# Altium footprint library SOIC127P600X175-16N-3-V1.PcbLib: 1 footprints
Each footprint in its own frame and in the unit in brackets; x right, y up, seen from the top. Pads: shape width x height; smd on the part's side, far side on the other; paste and mask are expansions set on the pad; w line width, h text height; cw(c..) or ccw(c..) is an arc to the next point about the centre after c.
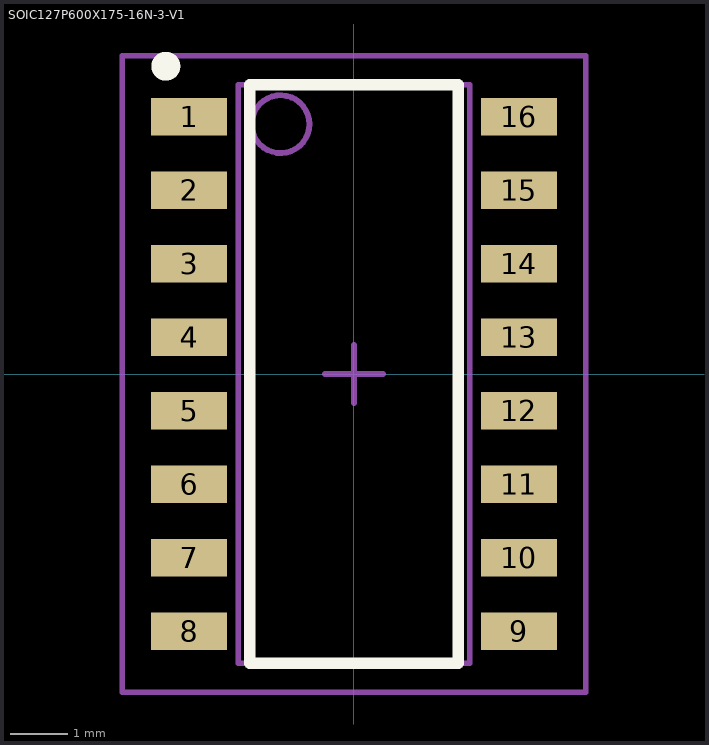
[diagram p0: the footprint, top view; thin cyan lines are the x and y axes]

## SOIC127P600X175-16N-3-V1 [mm] "SOIC,1.27mm pitch;16 pin,4.00mm W X 10.00mm L X 1.75mm H body"
height 1.75
pads (16):
  rect 1.31x0.65 smd paste+0 mask+0: 1(-2.85,4.445) 2(-2.85,3.175) 3(-2.85,1.905) 4(-2.85,0.635) 5(-2.85,-0.635) 6(-2.85,-1.905) 7(-2.85,-3.175) 8(-2.85,-4.445) 9(2.85,-4.445) 10(2.85,-3.175) 11(2.85,-1.905) 12(2.85,-0.635) 13(2.85,0.635) 14(2.85,1.905) 15(2.85,3.175) 16(2.85,4.445)
Top Overlay:
  circle w0.25: c-3.252,5.32 r0.125
  lines w0.2: -1.8,-5 1.8,-5 1.8,5 -1.8,5 -1.8,-5
M3 (ASY_Text_Top):
  text ".DESIGNATOR" at 0,0 h1.2
M13 (CMP_Body_OTL_Top):
  circle w0.1: c-1.27,4.318 r0.5
  lines w0.1: -2,-5 2,-5 2,5 -2,5 -2,-5
M15 (CMP_Courtyard_Top):
  lines w0.1: -0.5,0 0.5,0 ; 0,-0.5 0,0.5 ; -4.005,-5.5 4.005,-5.5 4.005,5.5 -4.005,5.5 -4.005,-5.5
3D body "PG-DSO-16-23_C66065-A5651-C001-03-0004.STEP": height 1.76, standoff 0, extent -3,-5 3,5